# Altium footprint library SignalCommunications.PCBLIB: 466 footprints (part 10 of 30)
Each footprint in its own frame and in the unit in brackets; x right, y up, seen from the top. Pads: shape width x height; smd on the part's side, far side on the other; paste and mask are expansions set on the pad; w line width, h text height; cw(c..) or ccw(c..) is an arc to the next point about the centre after c.
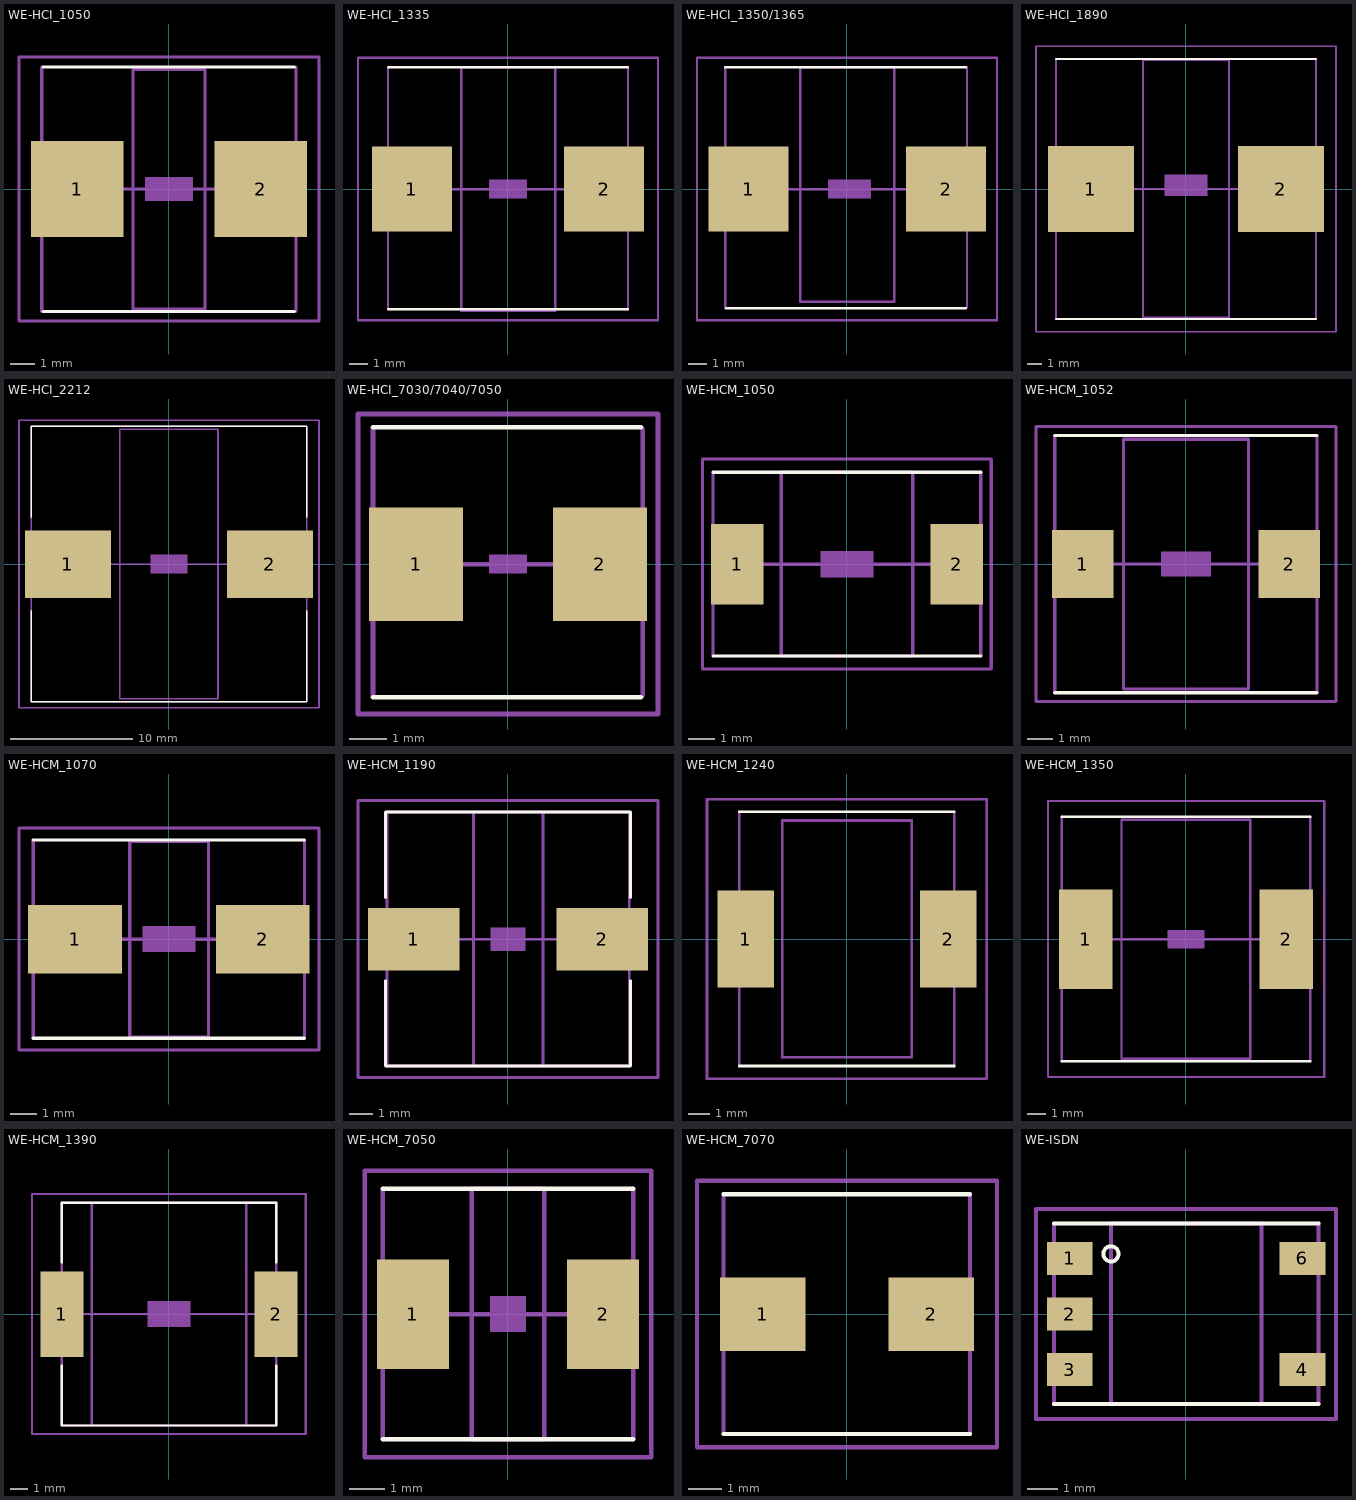
[diagram p9: the footprints below, top view; thin cyan lines are the x and y axes]

## WE-HCI_1050 [mil]
pads (2):
  rect 152x158 smd: 1(-150.59,0) 2(151,0)
Top Overlay:
  lines w5: -206.69,-200.79 207,-200.79 ; -206.69,201 207,201
Mechanical 10:
  lines w5: -59.06,-196.85 -59.06,197 60,197 60,-196.85 -59.06,-196.85
Mechanical 16:
  rectangle: -39.37,-19.68 40,20
  lines w5: -208.66,-200.79 -208.66,201 ; -137.8,0 -39.37,0 ; 40,0 138,0 ; 209,-200.79 209,201
Mechanical 27:
  lines w5: -246.06,-216.54 -246.06,217 247,217 247,-216.54 -246.06,-216.54

## WE-HCI_1335 [mil]
pads (2):
  rect 168x178 smd: 1(-201.57,0) 2(202,0)
Top Overlay:
  lines w5: -251.97,-251.97 252,-251.97 ; -251.97,256 252,256
Mechanical 10:
  lines w5: -98.43,-255.91 -98.43,256 99,256 99,-255.91 -98.43,-255.91
Mechanical 16:
  rectangle: -39.37,-19.68 40,20
  lines w5: -251.97,-250 -251.97,254 ; -196.85,0 197,0 ; 252,-251.97 252,256
Mechanical 27:
  lines w5: -314.96,-275.59 -314.96,276 315,276 315,-275.59 -314.96,-275.59

## WE-HCI_1350/1365 [mil]
pads (2):
  rect 168x178 smd: 1(-206.69,0) 2(208,0)
Top Overlay:
  lines w5: -255.91,256 249,256 ; -253.94,-250 250,-250
Mechanical 10:
  lines w5: -98.43,-236.22 -98.43,256 99,256 99,-236.22 -98.43,-236.22
Mechanical 16:
  rectangle: -39.37,-19.68 50,20
  lines w5: -255.91,-250 -255.91,254 ; -196.85,0 197,0 ; 252,-248.03 252,256
Mechanical 27:
  lines w5: -314.96,-275.59 -314.96,276 315,276 315,-275.59 -314.96,-275.59

## WE-HCI_1890 [mil]
pads (2):
  rect 237x237 smd: 1(-261.81,0) 2(262,0)
Top Overlay:
  lines w5: -358.27,-358.27 359,-358.27 ; -358.27,359 359,359
Mechanical 10:
  lines w5: -118.11,-354.33 -118.11,355 119,355 119,-354.33 -118.11,-354.33
Mechanical 16:
  rectangle: -59.06,-19.68 60,40
  lines w5: -358.27,-358.27 -358.27,359 ; -255.91,0 -39.37,0 ; 60,0 237,0 ; 359,-358.27 359,359
Mechanical 27:
  lines w5: -413.39,-393.7 -413.39,394 414,394 414,-393.7 -413.39,-393.7

## WE-HCI_2212 [mil]
pads (2):
  rect 276x217 smd: 1(-324.8,0) 2(325,0)
Top Overlay:
  lines w5: -442.91,-150 -442.91,-442.91 443,-442.91 443,-150 ; -442.91,150 -442.91,443 443,443 443,150
Mechanical 10:
  lines w5: -157.48,-433.07 -157.48,434 158,434 158,-433.07 -157.48,-433.07
Mechanical 16:
  rectangle: -59.06,-29.68 60,30
  lines w5: -255.91,0 -39.37,0 ; 40,0 237,0 ; -442.91,-442.91 443,-442.91 443,443 -442.91,443 -442.91,-442.91
Mechanical 27:
  lines w5: -482.28,-462.6 483,-462.6 483,463 -482.28,463 -482.28,-462.6

## WE-HCI_7030/7040/7050 [mil]
pads (2):
  rect 99x119 smd: 1(-96.46,0) 2(97,0)
Top Overlay:
  lines w5: -141.73,-139.76 140,-139.76 ; -141.73,144 140,144
Mechanical 16:
  rectangle: -19.68,-9.84 20,10
  lines w5: -141.73,-137.8 -141.73,142 ; -98.43,0 99,0 ; 142,-137.8 142,142
Mechanical 27:
  lines w5: -157.48,-157.48 -157.48,158 158,158 158,-157.48 -157.48,-157.48

## WE-HCM_1050 [mil]
pads (2):
  rect 79x121 smd: 1(-164.37,0) 2(165,0)
Top Overlay:
  lines w5: -200.79,-137.8 201,-137.8 ; -200.79,138 201,138
Mechanical 10:
  lines w5: -98.43,-137.8 -98.43,138 99,138 99,-137.8 -98.43,-137.8
Mechanical 16:
  rectangle: -39.37,-19.68 40,20
  lines w5: -200.79,-137.8 -200.79,138 ; -137.8,0 -39.37,0 ; 40,0 138,0 ; 201,-137.8 201,138
Mechanical 27:
  lines w5: -216.54,-157.48 -216.54,158 217,158 217,-157.48 -216.54,-157.48

## WE-HCM_1052 [mil]
pads (2):
  rect 97x107 smd: 1(-162.4,0) 2(163,0)
Top Overlay:
  lines w5: -206.69,-202.76 207,-202.76 ; -206.69,203 207,203
Mechanical 10:
  lines w5: -98.43,-196.85 -98.43,197 99,197 99,-196.85 -98.43,-196.85
Mechanical 16:
  rectangle: -39.37,-19.68 40,20
  lines w5: -206.69,-202.76 -206.69,203 ; -137.8,0 -39.37,0 ; 40,0 138,0 ; 207,-202.76 207,203
Mechanical 27:
  lines w5: -236.22,-216.54 -236.22,217 237,217 237,-216.54 -236.22,-216.54

## WE-HCM_1070 [mil]
pads (2):
  rect 142x103 smd: 1(-141.73,0) 2(142,0)
Top Overlay:
  lines w5: -204.72,-149.61 205,-149.61 ; -204.72,150 205,150
Mechanical 10:
  lines w5: -59.06,-147.64 -59.06,148 60,148 60,-147.64 -59.06,-147.64
Mechanical 16:
  rectangle: -39.37,-19.68 40,20
  lines w5: -204.72,-149.61 -204.72,150 ; -137.8,0 -39.37,0 ; 40,0 138,0 ; 205,-149.61 205,150
Mechanical 27:
  lines w5: -226.38,-167.32 -226.38,168 227,168 227,-167.32 -226.38,-167.32

## WE-HCM_1190 [mil]
pads (2):
  rect 156x107 smd: 1(-160.43,0) 2(161,0)
Top Overlay:
  lines w5: -208.66,-70.87 -208.66,-216.54 209,-216.54 209,-70.87 ; -208.66,71 -208.66,217 209,217 209,71
Mechanical 10:
  lines w5: -59.06,-216.54 -59.06,217 60,217 60,-216.54 -59.06,-216.54
Mechanical 16:
  rectangle: -29.53,-19.68 30,20
  lines w5: -147.64,0 148,0 ; -206.69,-216.54 207,-216.54 207,217 -206.69,217 -206.69,-216.54
Mechanical 27:
  lines w5: -255.91,-236.22 -255.91,237 256,237 256,-236.22 -255.91,-236.22

## WE-HCM_1240 [mil]
pads (2):
  rect 103x178 smd: 1(-185.04,0) 2(186,0)
Top Overlay:
  lines w5: -196.85,-232.28 197,-232.28 ; -196.85,233 197,233
Mechanical 10:
  lines w5: -118.11,-216.54 -118.11,217 119,217 119,-216.54 -118.11,-216.54
Mechanical 16:
  lines w5: -196.85,-232.28 -196.85,233 ; 197,-232.28 197,233
Mechanical 27:
  lines w5: -255.91,-255.91 -255.91,256 256,256 256,-255.91 -255.91,-255.91

## WE-HCM_1350 [mil]
pads (2):
  rect 115x213 smd: 1(-214.57,0) 2(215,0)
Top Overlay:
  lines w5: -265.75,-261.81 266,-261.81 ; -265.75,262 266,262
Mechanical 10:
  lines w5: -137.8,-255.91 -137.8,256 138,256 138,-255.91 -137.8,-255.91
Mechanical 16:
  rectangle: -39.37,-19.68 40,20
  lines w5: -265.75,-261.81 -265.75,262 ; -216.54,0 -39.37,0 ; 40,0 217,0 ; 266,-261.81 266,262
Mechanical 27:
  lines w5: -295.28,-295.28 -295.28,296 296,296 296,-295.28 -295.28,-295.28

## WE-HCM_1390 [mil]
pads (2):
  rect 99x197 smd: 1(-246.06,0) 2(247,0)
Top Overlay:
  lines w5: -246.06,-118.11 -246.06,-255.91 247,-255.91 247,-118.11 ; -246.06,119 -246.06,256 247,256 247,119
Mechanical 10:
  lines w5: -177.17,-255.91 -177.17,256 178,256 178,-255.91 -177.17,-255.91
Mechanical 16:
  rectangle: -49.21,-29.53 50,30
  lines w5: -236.22,0 237,0 ; -246.06,-255.91 247,-255.91 247,256 -246.06,256 -246.06,-255.91
Mechanical 27:
  lines w5: -314.96,-275.59 -314.96,276 315,276 315,-275.59 -314.96,-275.59

## WE-HCM_7050 [mil]
pads (2):
  rect 79x121 smd: 1(-104.33,0) 2(105,0)
Top Overlay:
  lines w5: -137.8,-137.8 138,-137.8 ; -137.8,138 138,138
Mechanical 10:
  lines w5: -39.37,-137.8 -39.37,138 40,138 40,-137.8 -39.37,-137.8
Mechanical 16:
  rectangle: -19.68,-19.68 20,20
  lines w5: -137.8,-137.8 -137.8,138 ; -78.74,0 -19.68,0 ; 20,0 79,0 ; 138,-137.8 138,138
Mechanical 27:
  lines w5: -157.48,-157.48 -157.48,158 158,158 158,-157.48 -157.48,-157.48

## WE-HCM_7070 [mil]
pads (2):
  rect 101x87 smd: 1(-99.41,0) 2(100,0)
Top Overlay:
  lines w5: -145.67,-141.73 146,-141.73 ; -145.67,142 146,142
Mechanical 16:
  lines w5: -145.67,-141.73 -145.67,142 ; 146,-141.73 146,142
Mechanical 27:
  lines w5: -177.17,-157.48 -177.17,158 178,158 178,-157.48 -177.17,-157.48

## WE-ISDN [mil]
pads (5):
  rect 60x43 smd: 1(-152.56,73) 2(-152.56,0) 3(-152.56,-72.83) 4(153,-72.83) 6(153,73)
Top Overlay:
  circle w5: c-98.43,79 r10
  lines w5: -173.23,-118.11 174,-118.11 ; -173.23,119 174,119
Mechanical 10:
  lines w5: -98.43,-118.11 -98.43,119 99,119 99,-118.11 -98.43,-118.11
Mechanical 16:
  lines w5: -173.23,-118.11 -173.23,119 ; 174,-118.11 174,119
Mechanical 27:
  lines w5: -196.85,-137.8 -196.85,138 197,138 197,-137.8 -196.85,-137.8